# Altium schematic symbol library MIT_Schlib.SchLib: 5 symbols
Pins are listed as number, name and electrical type; pins without a type are passive.

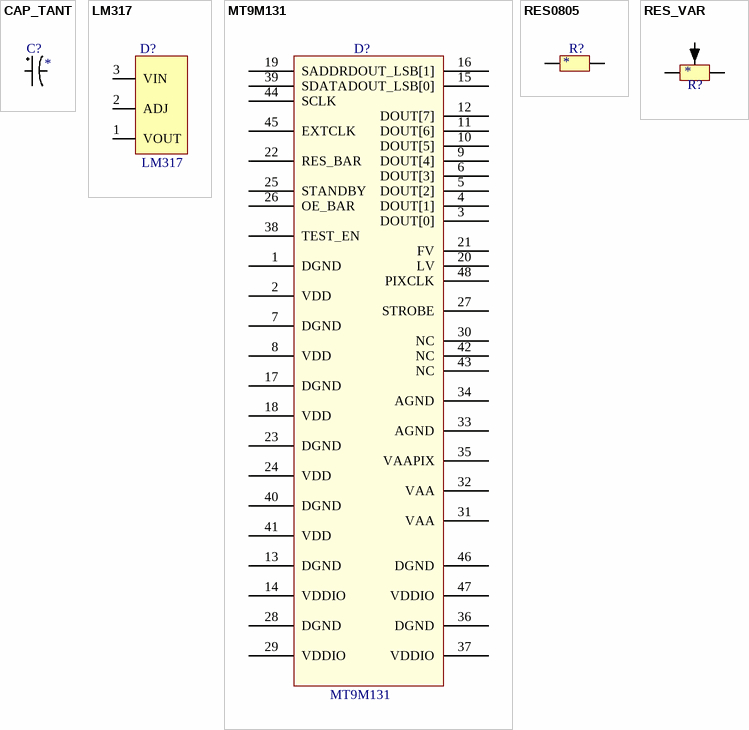
[diagram p0: symbols CAP_TANT to RES_VAR]

## CAP_TANT
designator C?
SMD
footprint TYPE_C
pins: 1, 2

## LM317
designator D?
footprint D2PACK
pins: 1 VOUT, 2 ADJ, 3 VIN

## MT9M131
designator D?
Matrix
footprint LCC48
pins: 1 DGND, 2 VDD, 3 DOUT[0], 4 DOUT[1], 5 DOUT[2], 6 DOUT[3], 7 DGND, 8 VDD, 9 DOUT[4], 10 DOUT[5], 11 DOUT[6], 12 DOUT[7], 13 DGND, 14 VDDIO, 15 DOUT_LSB[0], 16 DOUT_LSB[1], 17 DGND, 18 VDD, 19 SADDR, 20 LV, 21 FV, 22 RES_BAR, 23 DGND, 24 VDD, 25 STANDBY, 26 OE_BAR, 27 STROBE, 28 DGND, 29 VDDIO, 30 NC, 31 VAA, 32 VAA, 33 AGND, 34 AGND, 35 VAAPIX, 36 DGND, 37 VDDIO, 38 TEST_EN, 39 SDATA, 40 DGND, 41 VDD, 42 NC, 43 NC, 44 SCLK, 45 EXTCLK, 46 DGND, 47 VDDIO, 48 PIXCLK

## RES0805
designator R?
0805
footprint 0805
pins: 1, 2

## RES_VAR
designator R?
PV36W102C (СП5-2ВБ) 1 кОм
footprint PV36W
pins: 1, 2, 3